# EAGLE library part TLC5925 (library texas)
LOW-POWER 16-CHANNEL CONSTANT-CURRENT LED SINK DRIVER
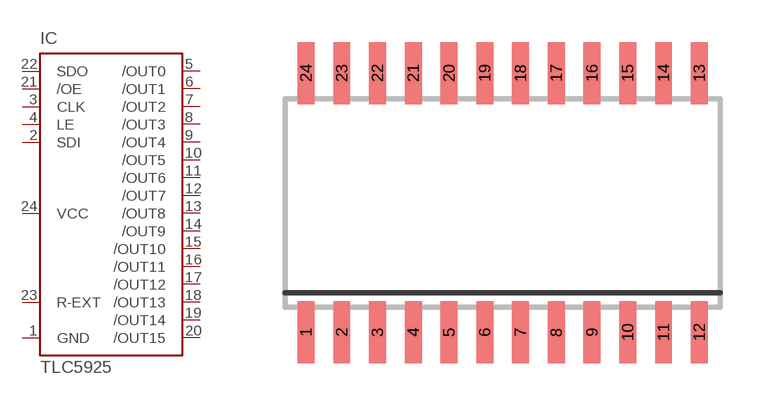
[diagram p29: symbol with the pads of SO-24DW; footprint SO-24DW]

Designator prefix IC

## TLC5925DW  [SO-24DW]
1  GND  pwr
2  SDI  in
3  CLK  in
4  LE  in
5  /OUT0  out
6  /OUT1  out
7  /OUT2  out
8  /OUT3  out
9  /OUT4  out
10  /OUT5  out
11  /OUT6  out
12  /OUT7  out
13  /OUT8  out
14  /OUT9  out
15  /OUT10  out
16  /OUT11  out
17  /OUT12  out
18  /OUT13  out
19  /OUT14  out
20  /OUT15  out
21  /OE  in
22  SDO  out
23  R-EXT  pas
24  VCC  pwr

## Footprint SO-24DW (pad centres in mm)
Small Outline Integrated Circuit wide
smd 0.6 x 2.2: 1 -5.715,-4.6; 2 -4.445,-4.6; 3 -3.175,-4.6; 4 -1.905,-4.6; 5 -0.635,-4.6; 6 0.635,-4.6; 7 1.905,-4.6; 8 3.175,-4.6; 9 4.445,-4.6; 10 5.715,-4.6; 11 6.985,-4.6; 12 8.255,-4.6; 13 8.255,4.6; 14 6.985,4.6; 15 5.715,4.6; 16 4.445,4.6; 17 3.175,4.6; 18 1.905,4.6; 19 0.635,4.6; 20 -0.635,4.6; 21 -1.905,4.6; 22 -3.175,4.6; 23 -4.445,4.6; 24 -5.715,4.6